# Altium footprint library LABLIB.PcbLib: 240 footprints (part 1 of 17)
Each footprint in its own frame and in the unit in brackets; x right, y up, seen from the top. Pads: shape width x height; smd on the part's side, far side on the other; paste and mask are expansions set on the pad; w line width, h text height; cw(c..) or ccw(c..) is an arc to the next point about the centre after c.
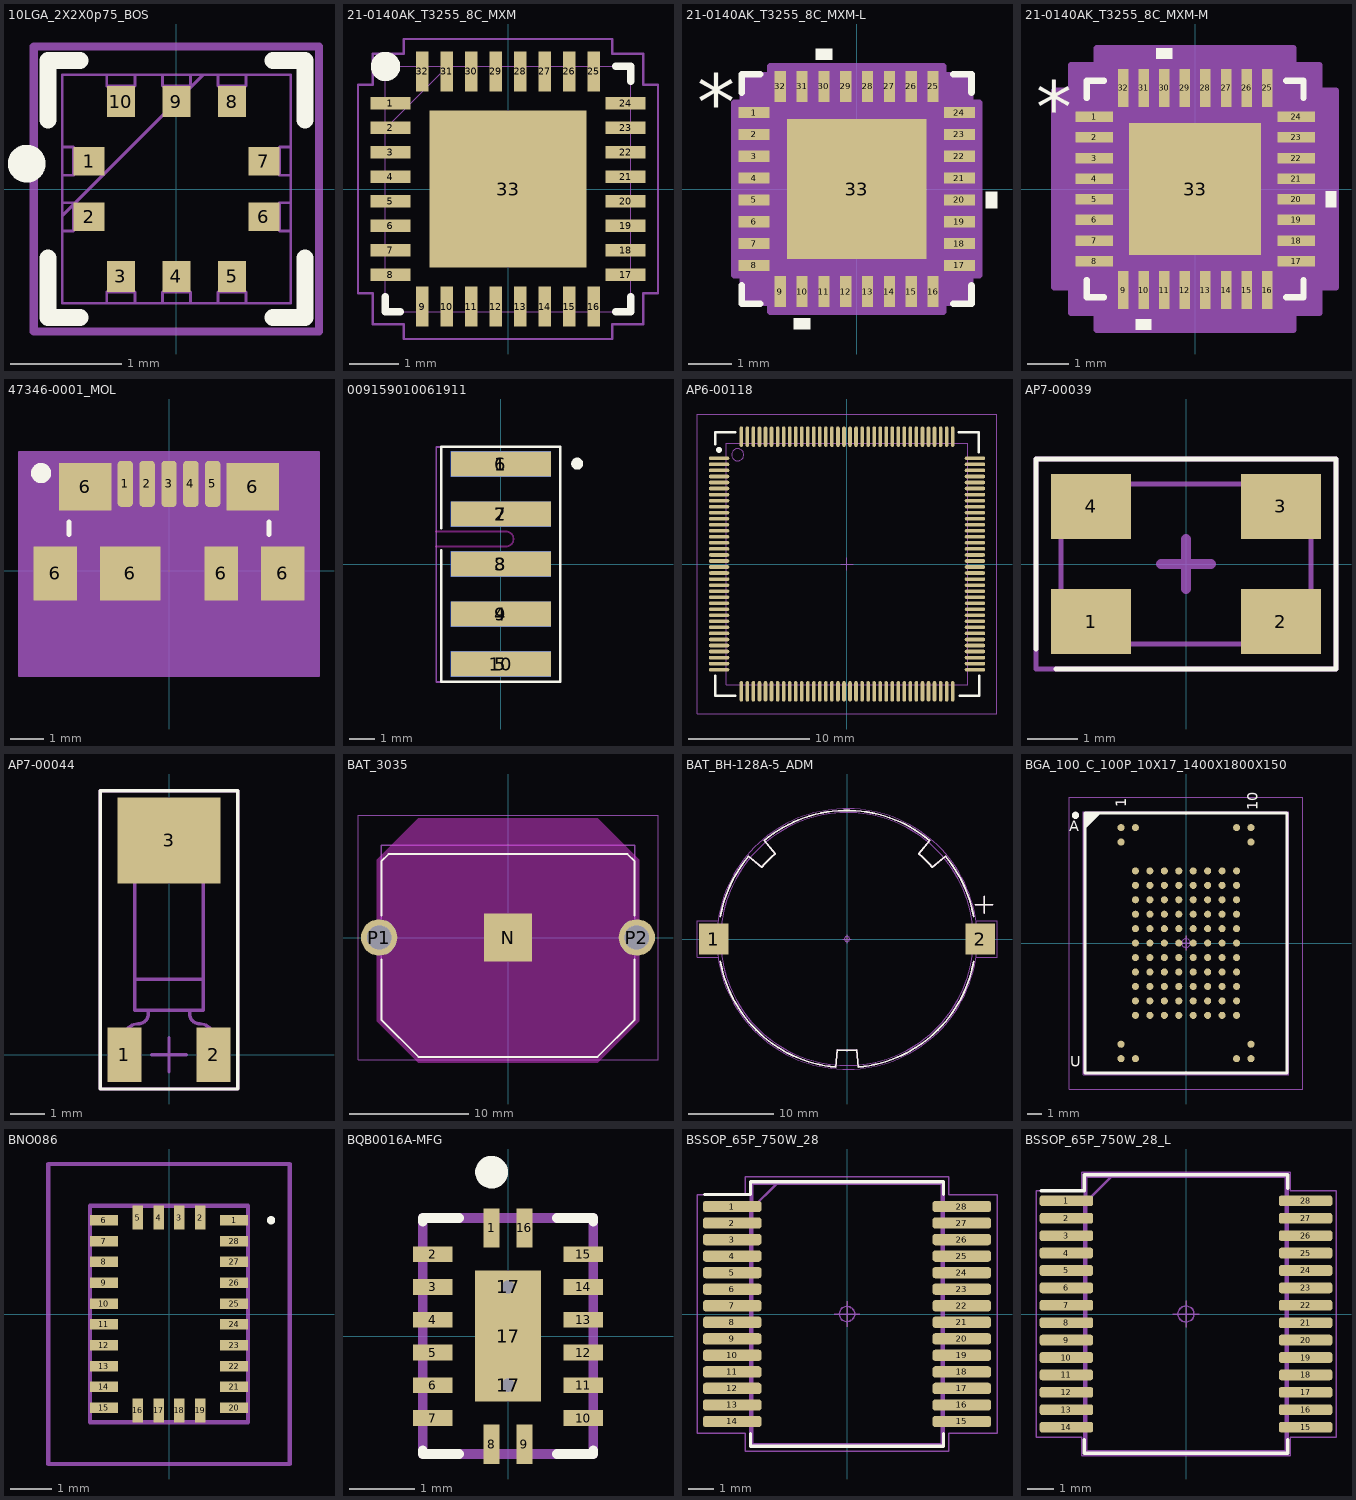
[diagram p0: the footprints below, top view; thin cyan lines are the x and y axes]

## 10LGA_2X2X0p75_BOS [mil]
pads (10):
  rect 11x10 smd paste+0 mask+0: 1(-31,9.84) 2(-31,-9.84) 6(31,-9.84) 7(31,9.84)
  rect 10x11 smd paste+0 mask+0: 3(-19.68,-31) 4(0,-31) 5(19.68,-31) 8(19.68,31) 9(0,31) 10(-19.68,31)
Top Overlay:
  circle w7.87: c-53.05,8.98 r2.76
  lines w6: -45.5,-24.36 -45.5,-45.5 -34.2,-45.5 ; -45.5,24.36 -45.5,45.5 -34.2,45.5 ; 34.2,-45.5 45.5,-45.5 45.5,-24.36 ; 34.2,45.5 45.5,45.5 45.5,24.36
Mechanical 13:
  lines w1: -40.5,-9.5 9.5,40.5 ; -40.5,-40.5 -40.5,40.5 40.5,40.5 40.5,-40.5 -40.5,-40.5 ; -40.5,-14.84 -36.5,-14.84 -36.5,-4.84 -40.5,-4.84 -40.5,-14.84 ; -40.5,4.84 -36.5,4.84 -36.5,14.84 -40.5,14.84 -40.5,4.84 ; -24.68,-40.5 -24.68,-36.5 -14.69,-36.5 -14.69,-40.5 -24.68,-40.5 ; -24.68,36.5 -24.68,40.5 -14.69,40.5 -14.69,36.5 -24.68,36.5 ; -5,-40.5 -5,-36.5 5,-36.5 5,-40.5 -5,-40.5 ; -5,36.5 -5,40.5 5,40.5 5,36.5 -5,36.5 ; 14.69,-40.5 14.69,-36.5 24.68,-36.5 24.68,-40.5 14.69,-40.5 ; 14.69,36.5 14.69,40.5 24.68,40.5 24.68,36.5 14.69,36.5 ; 36.5,-14.84 36.5,-4.84 40.5,-4.84 40.5,-14.84 36.5,-14.84 ; 36.5,4.84 36.5,14.84 40.5,14.84 40.5,4.84 36.5,4.84
Mechanical 15:
  lines w3: -50.5,-50.5 -34.69,-50.5 34.69,-50.5 50.5,-50.5 50.5,-24.84 50.5,24.84 50.5,50.5 34.69,50.5 -34.69,50.5 -50.5,50.5 -50.5,24.84 -50.5,-24.84 -50.5,-50.5
3D body "10LGA_2X2X0p75_BOS.step": height 32.09, standoff 0, extent -40.51,-40.51 40.51,40.51

## 21-0140AK_T3255_8C_MXM [mil]
pads (33):
  rect 32x10 smd paste+0 mask+0: 1(-94.5,68.9) 2(-94.5,49.21) 3(-94.5,29.53) 4(-94.5,9.84) 5(-94.5,-9.84) 6(-94.5,-29.53) 7(-94.5,-49.21) 8(-94.5,-68.9) 17(94.5,-68.9) 18(94.5,-49.21) 19(94.5,-29.53) 20(94.5,-9.84) 21(94.5,9.84) 22(94.5,29.53) 23(94.5,49.21) 24(94.5,68.9)
  rect 10x32 smd paste+0 mask+0: 9(-68.9,-94.5) 10(-49.21,-94.5) 11(-29.53,-94.5) 12(-9.84,-94.5) 13(9.84,-94.5) 14(29.53,-94.5) 15(49.21,-94.5) 16(68.9,-94.5) 25(68.9,94.5) 26(49.21,94.5) 27(29.53,94.5) 28(9.84,94.5) 29(-9.84,94.5) 30(-29.53,94.5) 31(-49.21,94.5) 32(-68.9,94.5)
  rect 126x126 smd paste-5.91 mask+0: 33(0,0)
Top Overlay:
  circle w11.81: c-98.43,98.43 r5.91
  lines w6: -98.5,-86.61 -98.5,-98.5 -86.61,-98.5 ; 86.61,-98.5 98.5,-98.5 98.5,-86.61 ; 86.61,98.5 98.5,98.5 98.5,86.61
Top Paste:
  region: 59.06,-3.94 3.94,-3.94 3.94,-59.06 59.06,-59.06
  region: 59.06,59.06 3.94,59.06 3.94,3.94 59.06,3.94
  region: -3.94,-3.94 -59.06,-3.94 -59.06,-59.06 -3.94,-59.06
  region: -3.94,59.06 -59.06,59.06 -59.06,3.94 -3.94,3.94
Top Assembly:
  lines w1: -98.5,48.5 -48.5,98.5 ; -98.5,-98.5 98.5,-98.5 98.5,98.5 -98.5,98.5 -98.5,-98.5 ; -98.5,-74.9 -98.5,-62.9 -98.5,-74.9 ; -98.5,-55.21 -98.5,-43.21 -98.5,-55.21 ; -98.5,-35.53 -98.5,-23.53 -98.5,-35.53 ; -98.5,-15.84 -98.5,-3.84 -98.5,-15.84 ; -98.5,3.84 -98.5,15.84 -98.5,3.84 ; -98.5,23.53 -98.5,35.53 -98.5,23.53 ; -98.5,43.21 -98.5,55.21 -98.5,43.21 ; -98.5,62.9 -98.5,74.9 -98.5,62.9 ; -74.9,-98.5 -62.9,-98.5 -74.9,-98.5 ; -74.9,98.5 -62.9,98.5 -74.9,98.5 ; -55.21,-98.5 -43.21,-98.5 -55.21,-98.5 ; -55.21,98.5 -43.21,98.5 -55.21,98.5 ; -35.53,-98.5 -23.53,-98.5 -35.53,-98.5 ; -35.53,98.5 -23.53,98.5 -35.53,98.5 ; -15.84,-98.5 -3.84,-98.5 -15.84,-98.5 ; -15.84,98.5 -3.84,98.5 -15.84,98.5 ; 3.84,-98.5 15.84,-98.5 3.84,-98.5 ; 3.84,98.5 15.84,98.5 3.84,98.5 ; 23.53,-98.5 35.53,-98.5 23.53,-98.5 ; 23.53,98.5 35.53,98.5 23.53,98.5 ; 43.21,-98.5 55.21,-98.5 43.21,-98.5 ; 43.21,98.5 55.21,98.5 43.21,98.5 ; 62.9,-98.5 74.9,-98.5 62.9,-98.5 ; 62.9,98.5 74.9,98.5 62.9,98.5 ; 98.5,-74.9 98.5,-62.9 98.5,-74.9 ; 98.5,-55.21 98.5,-43.21 98.5,-55.21 ; 98.5,-35.53 98.5,-23.53 98.5,-35.53 ; 98.5,-15.84 98.5,-3.84 98.5,-15.84 ; 98.5,3.84 98.5,15.84 98.5,3.84 ; 98.5,23.53 98.5,35.53 98.5,23.53 ; 98.5,43.21 98.5,55.21 98.5,43.21 ; 98.5,62.9 98.5,74.9 98.5,62.9
  text "*" at -91,53.74 h50
Top Courtyard:
  lines w1.97: -120.5,-83.9 -120.5,83.9 -108.5,83.9 -108.5,108.5 -83.9,108.5 -83.9,120.5 83.9,120.5 83.9,108.5 108.5,108.5 108.5,83.9 120.5,83.9 120.5,-83.9 108.5,-83.9 108.5,-108.5 83.9,-108.5 83.9,-120.5 -83.9,-120.5 -83.9,-108.5 -108.5,-108.5 -108.5,-83.9 -120.5,-83.9
3D body "21-0140AK_T3255_8C_MXM.step": height 32.09, standoff 0, extent -98.5,-98.5 98.5,98.5

## 21-0140AK_T3255_8C_MXM-L [mil]
pads (33):
  rect 28x10 smd paste+0 mask+0: 1(-92.5,68.9) 2(-92.5,49.21) 3(-92.5,29.53) 4(-92.5,9.84) 5(-92.5,-9.84) 6(-92.5,-29.53) 7(-92.5,-49.21) 8(-92.5,-68.9) 17(92.5,-68.9) 18(92.5,-49.21) 19(92.5,-29.53) 20(92.5,-9.84) 21(92.5,9.84) 22(92.5,29.53) 23(92.5,49.21) 24(92.5,68.9)
  rect 10x28 smd paste+0 mask+0: 9(-68.9,-92.5) 10(-49.21,-92.5) 11(-29.53,-92.5) 12(-9.84,-92.5) 13(9.84,-92.5) 14(29.53,-92.5) 15(49.21,-92.5) 16(68.9,-92.5) 25(68.9,92.5) 26(49.21,92.5) 27(29.53,92.5) 28(9.84,92.5) 29(-9.84,92.5) 30(-29.53,92.5) 31(-49.21,92.5) 32(-68.9,92.5)
  rect 126x126 smd paste-63 mask+0: 33(0,0)
Top Overlay:
  region: -41.71,-116.5 -56.71,-116.5 -56.71,-126.5 -41.71,-126.5
  region: 116.5,-2.34 126.5,-2.34 126.5,-17.34 116.5,-17.34
  region: -22.03,116.5 -37.03,116.5 -37.03,126.5 -22.03,126.5
  lines w6: -103.5,-87 -103.5,-103.5 -87,-103.5 ; -103.5,87 -103.5,103.5 -87,103.5 ; 87,-103.5 103.5,-103.5 103.5,-87 ; 87,103.5 103.5,103.5 103.5,87
  text "*" at -144,53.74 h50
  text ".Designator" at -137.5,-25 h50
Top Paste:
  region: -3.94,59.06 -59.06,59.06 -59.06,3.94 -3.94,3.94
  region: -3.94,-3.94 -59.06,-3.94 -59.06,-59.06 -3.94,-59.06
  region: 59.06,59.06 3.94,59.06 3.94,3.94 59.06,3.94
  region: 59.06,-3.94 3.94,-3.94 3.94,-59.06 59.06,-59.06
Mechanical 13:
  lines w1: -98.5,48.5 -48.5,98.5 ; -98.5,-98.5 98.5,-98.5 98.5,98.5 -98.5,98.5 -98.5,-98.5 ; -98.5,-74.9 -98.5,-62.9 -98.5,-74.9 ; -98.5,-55.21 -98.5,-43.21 -98.5,-55.21 ; -98.5,-35.53 -98.5,-23.53 -98.5,-35.53 ; -98.5,-15.84 -98.5,-3.84 -98.5,-15.84 ; -98.5,3.84 -98.5,15.84 -98.5,3.84 ; -98.5,23.53 -98.5,35.53 -98.5,23.53 ; -98.5,43.21 -98.5,55.21 -98.5,43.21 ; -98.5,62.9 -98.5,74.9 -98.5,62.9 ; -74.9,-98.5 -62.9,-98.5 -74.9,-98.5 ; -74.9,98.5 -62.9,98.5 -74.9,98.5 ; -55.21,-98.5 -43.21,-98.5 -55.21,-98.5 ; -55.21,98.5 -43.21,98.5 -55.21,98.5 ; -35.53,-98.5 -23.53,-98.5 -35.53,-98.5 ; -35.53,98.5 -23.53,98.5 -35.53,98.5 ; -15.84,-98.5 -3.84,-98.5 -15.84,-98.5 ; -15.84,98.5 -3.84,98.5 -15.84,98.5 ; 3.84,-98.5 15.84,-98.5 3.84,-98.5 ; 3.84,98.5 15.84,98.5 3.84,98.5 ; 23.53,-98.5 35.53,-98.5 23.53,-98.5 ; 23.53,98.5 35.53,98.5 23.53,98.5 ; 43.21,-98.5 55.21,-98.5 43.21,-98.5 ; 43.21,98.5 55.21,98.5 43.21,98.5 ; 62.9,-98.5 74.9,-98.5 62.9,-98.5 ; 62.9,98.5 74.9,98.5 62.9,98.5 ; 98.5,-74.9 98.5,-62.9 98.5,-74.9 ; 98.5,-55.21 98.5,-43.21 98.5,-55.21 ; 98.5,-35.53 98.5,-23.53 98.5,-35.53 ; 98.5,-15.84 98.5,-3.84 98.5,-15.84 ; 98.5,3.84 98.5,15.84 98.5,3.84 ; 98.5,23.53 98.5,35.53 98.5,23.53 ; 98.5,43.21 98.5,55.21 98.5,43.21 ; 98.5,62.9 98.5,74.9 98.5,62.9
  text ".Designator" at -137.5,-25 h50
  text "*" at -91,53.74 h50
Mechanical 15:
  region: -77.9,-102.5 -102.5,-102.5 -102.5,-77.9 -110.5,-77.9 -110.5,77.9 -102.5,77.9 -102.5,102.5 -77.9,102.5 -77.9,110.5 77.9,110.5 77.9,102.5 102.5,102.5 102.5,77.9 110.5,77.9 110.5,-77.9 102.5,-77.9 102.5,-102.5 77.9,-102.5 77.9,-110.5 -77.9,-110.5
  lines w6: -110.5,-77.9 -102.5,-77.9 -102.5,-102.5 -77.9,-102.5 -77.9,-110.5 77.9,-110.5 77.9,-102.5 102.5,-102.5 102.5,-77.9 110.5,-77.9 110.5,77.9 102.5,77.9 102.5,102.5 77.9,102.5 77.9,110.5 -77.9,110.5 -77.9,102.5 -102.5,102.5 -102.5,77.9 -110.5,77.9 -110.5,-77.9
3D body "21-0140AK_T3255_8C_MXM.step": height 32.09, standoff 0, extent -98.5,-98.5 98.5,98.5

## 21-0140AK_T3255_8C_MXM-M [mil]
pads (33):
  rect 36x10 smd paste+0 mask+0: 1(-96.5,68.9) 2(-96.5,49.21) 3(-96.5,29.53) 4(-96.5,9.84) 5(-96.5,-9.84) 6(-96.5,-29.53) 7(-96.5,-49.21) 8(-96.5,-68.9) 17(96.5,-68.9) 18(96.5,-49.21) 19(96.5,-29.53) 20(96.5,-9.84) 21(96.5,9.84) 22(96.5,29.53) 23(96.5,49.21) 24(96.5,68.9)
  rect 10x36 smd paste+0 mask+0: 9(-68.9,-96.5) 10(-49.21,-96.5) 11(-29.53,-96.5) 12(-9.84,-96.5) 13(9.84,-96.5) 14(29.53,-96.5) 15(49.21,-96.5) 16(68.9,-96.5) 25(68.9,96.5) 26(49.21,96.5) 27(29.53,96.5) 28(9.84,96.5) 29(-9.84,96.5) 30(-29.53,96.5) 31(-49.21,96.5) 32(-68.9,96.5)
  rect 126x126 smd paste-63 mask+0: 33(0,0)
Top Overlay:
  region: -41.71,-124.5 -56.71,-124.5 -56.71,-134.5 -41.71,-134.5
  region: 124.5,-2.34 134.5,-2.34 134.5,-17.34 124.5,-17.34
  region: -22.03,124.5 -37.03,124.5 -37.03,134.5 -22.03,134.5
  lines w6: -103.5,-87 -103.5,-103.5 -87,-103.5 ; -103.5,87 -103.5,103.5 -87,103.5 ; 87,-103.5 103.5,-103.5 103.5,-87 ; 87,103.5 103.5,103.5 103.5,87
  text "*" at -152,53.74 h50
  text ".Designator" at -137.5,-25 h50
Top Paste:
  region: -3.94,59.06 -59.06,59.06 -59.06,3.94 -3.94,3.94
  region: -3.94,-3.94 -59.06,-3.94 -59.06,-59.06 -3.94,-59.06
  region: 59.06,59.06 3.94,59.06 3.94,3.94 59.06,3.94
  region: 59.06,-3.94 3.94,-3.94 3.94,-59.06 59.06,-59.06
Mechanical 13:
  lines w1: -98.5,48.5 -48.5,98.5 ; -98.5,-98.5 98.5,-98.5 98.5,98.5 -98.5,98.5 -98.5,-98.5 ; -98.5,-74.9 -98.5,-62.9 -98.5,-74.9 ; -98.5,-55.21 -98.5,-43.21 -98.5,-55.21 ; -98.5,-35.53 -98.5,-23.53 -98.5,-35.53 ; -98.5,-15.84 -98.5,-3.84 -98.5,-15.84 ; -98.5,3.84 -98.5,15.84 -98.5,3.84 ; -98.5,23.53 -98.5,35.53 -98.5,23.53 ; -98.5,43.21 -98.5,55.21 -98.5,43.21 ; -98.5,62.9 -98.5,74.9 -98.5,62.9 ; -74.9,-98.5 -62.9,-98.5 -74.9,-98.5 ; -74.9,98.5 -62.9,98.5 -74.9,98.5 ; -55.21,-98.5 -43.21,-98.5 -55.21,-98.5 ; -55.21,98.5 -43.21,98.5 -55.21,98.5 ; -35.53,-98.5 -23.53,-98.5 -35.53,-98.5 ; -35.53,98.5 -23.53,98.5 -35.53,98.5 ; -15.84,-98.5 -3.84,-98.5 -15.84,-98.5 ; -15.84,98.5 -3.84,98.5 -15.84,98.5 ; 3.84,-98.5 15.84,-98.5 3.84,-98.5 ; 3.84,98.5 15.84,98.5 3.84,98.5 ; 23.53,-98.5 35.53,-98.5 23.53,-98.5 ; 23.53,98.5 35.53,98.5 23.53,98.5 ; 43.21,-98.5 55.21,-98.5 43.21,-98.5 ; 43.21,98.5 55.21,98.5 43.21,98.5 ; 62.9,-98.5 74.9,-98.5 62.9,-98.5 ; 62.9,98.5 74.9,98.5 62.9,98.5 ; 98.5,-74.9 98.5,-62.9 98.5,-74.9 ; 98.5,-55.21 98.5,-43.21 98.5,-55.21 ; 98.5,-35.53 98.5,-23.53 98.5,-35.53 ; 98.5,-15.84 98.5,-3.84 98.5,-15.84 ; 98.5,3.84 98.5,15.84 98.5,3.84 ; 98.5,23.53 98.5,35.53 98.5,23.53 ; 98.5,43.21 98.5,55.21 98.5,43.21 ; 98.5,62.9 98.5,74.9 98.5,62.9
  text ".Designator" at -137.5,-25 h50
  text "*" at -91,53.74 h50
Mechanical 15:
  region: -93.9,-118.5 -118.5,-118.5 -118.5,-93.9 -134.5,-93.9 -134.5,93.9 -118.5,93.9 -118.5,118.5 -93.9,118.5 -93.9,134.5 93.9,134.5 93.9,118.5 118.5,118.5 118.5,93.9 134.5,93.9 134.5,-93.9 118.5,-93.9 118.5,-118.5 93.9,-118.5 93.9,-134.5 -93.9,-134.5
  lines w6: -134.5,-93.9 -118.5,-93.9 -118.5,-118.5 -93.9,-118.5 -93.9,-134.5 93.9,-134.5 93.9,-118.5 118.5,-118.5 118.5,-93.9 134.5,-93.9 134.5,93.9 118.5,93.9 118.5,118.5 93.9,118.5 93.9,134.5 -93.9,134.5 -93.9,118.5 -118.5,118.5 -118.5,93.9 -134.5,93.9 -134.5,-93.9
3D body "21-0140AK_T3255_8C_MXM.step": height 32.09, standoff 0, extent -98.5,-98.5 98.5,98.5

## 47346-0001_MOL [mm]
pads (11):
  rrect50% 0.457x1.372 smd: 1(-1.3,2.58) 2(-0.65,2.58) 3(0,2.58) 4(0.65,2.58) 5(1.3,2.58)
  rect 1.3x1.6 smd paste-0.1: 6(-3.375,-0.08) 6(3.375,-0.08)
  rect 1.549x1.422 smd paste-0.1: 6(-2.488,2.495) 6(2.488,2.495)
  rect 1.8x1.6 smd paste-0.1: 6(-1.15,-0.08)
  rect 1x1.6 smd paste-0.1: 6(1.549,-0.08)
Top Overlay:
  circle w0.3: c-3.8,2.9 r0.15
  lines w0.152: -2.972,1.078 -2.972,1.451 ; 2.972,1.078 2.972,1.451
Mechanical 1:
  cavity: 4.454,3.524 -4.454,3.524 -4.454,-3.124 4.454,-3.124
Top Assembly:
  circle w0.2: c-1.3,1.6 r0.1
  lines w0.025: -2.845,-2.87 -2.845,2.87 2.845,2.87 2.845,-2.87 -2.845,-2.87
  text "'.Designator'" at -3.952,-0.622 h1.5
Top Courtyard:
  lines w0.05: -4.454,-3.124 -4.454,3.524 4.454,3.524 4.454,-3.124 -4.454,-3.124
Top Component Center:
  circle w0.05: c0,0 r0.3
  lines w0.05: -0.5,0 0.5,0 ; 0,-0.5 0,0.5
3D body "473460001.stp": height 2.69, standoff -0.25, extent -3.99,-2.78 3.99,2.65

## 009159010061911 [mm]
pads (10):
  rect 4x1 smd paste-2539.97: 1(0,4) 2(0,2) 3(0,0) 4(0,-2) 5(0,-4)
  rect 4x1 smd far side paste-2539.97: 6(0,4) 7(0,2) 8(0,0) 9(0,-2) 10(0,-4)
Top Overlay:
  circle w0.254: c3.048,4.013 r0.114
  lines w0.1: -2.388,0.546 -2.388,-4.7 2.362,-4.7 2.362,4.698 -2.388,4.698 -2.388,1.435
Bottom Overlay:
  lines w0.1: -2.388,0.546 -2.388,-4.7 2.362,-4.7 2.362,4.698 -2.388,4.698 -2.388,1.435
Keep-Out Layer:
  lines w0.076: -2.6,0.7 0.2,0.7 ccw(c0.2,1) 0.2,1.3 -2.6,1.3
Top Component Outline:
  lines w0.076: -2.591,-4.712 -2.591,4.686 2.362,4.686 2.362,-4.712 -2.591,-4.712
Bottom Component Outline:
  lines w0.076: -2.591,-4.712 -2.591,4.686 2.362,4.686 2.362,-4.712 -2.591,-4.712

## AP6-00118 [mm]
height 1.6
pads (144):
  oval 1.7x0.3 smd: 1(-10.6,8.75) 2(-10.6,8.25) 3(-10.6,7.75) 4(-10.6,7.25) 5(-10.6,6.75) 6(-10.6,6.25) 7(-10.6,5.75) 8(-10.6,5.25) 9(-10.6,4.75) 10(-10.6,4.25) 11(-10.6,3.75) 12(-10.6,3.25) 13(-10.6,2.75) 14(-10.6,2.25) 15(-10.6,1.75) 16(-10.6,1.25) 17(-10.6,0.75) 18(-10.6,0.25) 19(-10.6,-0.25) 20(-10.6,-0.75) 21(-10.6,-1.25) 22(-10.6,-1.75) 23(-10.6,-2.25) 24(-10.6,-2.75) 25(-10.6,-3.25) 26(-10.6,-3.75) 27(-10.6,-4.25) 28(-10.6,-4.75) 29(-10.6,-5.25) 30(-10.6,-5.75) 31(-10.6,-6.25) 32(-10.6,-6.75) 33(-10.6,-7.25) 34(-10.6,-7.75) 35(-10.6,-8.25) 36(-10.6,-8.75) 73(10.6,-8.75) 74(10.6,-8.25) 75(10.6,-7.75) 76(10.6,-7.25) 77(10.6,-6.75) 78(10.6,-6.25) 79(10.6,-5.75) 80(10.6,-5.25) 81(10.6,-4.75) 82(10.6,-4.25) 83(10.6,-3.75) 84(10.6,-3.25) 85(10.6,-2.75) 86(10.6,-2.25) 87(10.6,-1.75) 88(10.6,-1.25) 89(10.6,-0.75) 90(10.6,-0.25) 91(10.6,0.25) 92(10.6,0.75) 93(10.6,1.25) 94(10.6,1.75) 95(10.6,2.25) 96(10.6,2.75) 97(10.6,3.25) 98(10.6,3.75) 99(10.6,4.25) 100(10.6,4.75) 101(10.6,5.25) 102(10.6,5.75) 103(10.6,6.25) 104(10.6,6.75) 105(10.6,7.25) 106(10.6,7.75) 107(10.6,8.25) 108(10.6,8.75)
  oval 0.3x1.7 smd: 37(-8.75,-10.55) 38(-8.25,-10.55) 39(-7.75,-10.55) 40(-7.25,-10.55) 41(-6.75,-10.55) 42(-6.25,-10.55) 43(-5.75,-10.55) 44(-5.25,-10.55) 45(-4.75,-10.55) 46(-4.25,-10.55) 47(-3.75,-10.55) 48(-3.25,-10.55) 49(-2.75,-10.55) 50(-2.25,-10.55) 51(-1.75,-10.55) 52(-1.25,-10.55) 53(-0.75,-10.55) 54(-0.25,-10.55) 55(0.25,-10.55) 56(0.75,-10.55) 57(1.25,-10.55) 58(1.75,-10.55) 59(2.25,-10.55) 60(2.75,-10.55) 61(3.25,-10.55) 62(3.75,-10.55) 63(4.25,-10.55) 64(4.75,-10.55) 65(5.25,-10.55) 66(5.75,-10.55) 67(6.25,-10.55) 68(6.75,-10.55) 69(7.25,-10.55) 70(7.75,-10.55) 71(8.25,-10.55) 72(8.75,-10.55) 109(8.75,10.55) 110(8.25,10.55) 111(7.75,10.55) 112(7.25,10.55) 113(6.75,10.55) 114(6.25,10.55) 115(5.75,10.55) 116(5.25,10.55) 117(4.75,10.55) 118(4.25,10.55) 119(3.75,10.55) 120(3.25,10.55) 121(2.75,10.55) 122(2.25,10.55) 123(1.75,10.55) 124(1.25,10.55) 125(0.75,10.55) 126(0.25,10.55) 127(-0.25,10.55) 128(-0.75,10.55) 129(-1.25,10.55) 130(-1.75,10.55) 131(-2.25,10.55) 132(-2.75,10.55) 133(-3.25,10.55) 134(-3.75,10.55) 135(-4.25,10.55) 136(-4.75,10.55) 137(-5.25,10.55) 138(-5.75,10.55) 139(-6.25,10.55) 140(-6.75,10.55) 141(-7.25,10.55) 142(-7.75,10.55) 143(-8.25,10.55) 144(-8.75,10.55)
Top Overlay:
  circle w0.25: c-10.6,9.45 r0.125
  lines w0.2: -10.897,-9.271 -10.897,-10.897 -9.271,-10.897 ; -10.897,9.931 -10.897,10.897 -9.271,10.897 ; 9.271,10.897 10.897,10.897 10.897,9.271 ; 9.321,-10.897 10.947,-10.897 10.947,-9.271
Mechanical 13:
  circle w0.1: c-9.05,9.05 r0.5
  lines w0.1: -10,-10 10,-10 10,10 -10,10 -10,-10
Mechanical 15:
  lines w0.1: -0.5,0 0.5,0 ; 0,-0.5 0,0.5 ; -12.425,-12.425 12.425,-12.425 12.425,12.425 -12.425,12.425 -12.425,-12.425
3D body: height 1.71, standoff 1.5, extent -1.5,5 1.5,7
3D body "qfp144.STEP": height 1.64, standoff -0.01, extent -11,-11 11,11

## AP7-00039 [mm] "FOX FQ5032B"
height 1.2
pads (4):
  rect 1.6x1.3 smd: 1(-1.9,-1.15) 2(1.9,-1.15) 3(1.9,1.15) 4(-1.9,1.15)
Top Overlay:
  lines w0.1: -3,-1.7 -3,2.1 3,2.1 3,-2.1 -2.6,-2.1
Mechanical 13:
  lines w0.1: -2.5,-1.6 -2.5,1.6 2.5,1.6 2.5,-1.6 -2.5,-1.6
Mechanical 15:
  lines w0.1: -3,-2.1 3,-2.1 3,2.1 -3,2.1 -3,-2.1
  lines w0.2: -0.5,0 0.5,0 ; 0,-0.5 0,0.5
3D body "User Library-CRYSTALSMD5X32.step": height 1, standoff 0, extent -2.5,-1.6 2.5,1.6

## AP7-00044 [mm]
height 0.9
pads (3):
  rect 1x1.6 smd: 1(-1.3,0) 2(1.3,0)
  rect 3x2.5 smd: 3(0,6.25)
Top Overlay:
  lines w0.1: -2,-1 -2,7.7 2,7.7 2,-1 -2,-1
Mechanical 13:
  lines w0.1: -1.3,-0.7 -1.3,0.5 cw(c-0.9,0.5) -0.9,0.9 ccw(c-0.9,1.2) -0.6,1.2 -0.6,1.3 ; -1,2.2 1,2.2 ; 0.6,1.3 0.6,1.2 ccw(c0.9,1.2) 0.9,0.9 cw(c0.9,0.5) 1.3,0.5 1.3,-0.7 ; -1,1.3 1,1.3 1,7.4 -1,7.4 -1,1.3
Mechanical 15:
  lines w0.1: -0.5,0 0.5,0 ; 0,-0.5 0,0.5 ; -2,-1 2,-1 2,7.7 -2,7.7 -2,-1
3D body: height 0.5, standoff 0, extent 1.1,-0.7 1.5,0.3
3D body: height 0.5, standoff 0, extent 0.51,0.017 1.5,1.007
3D body: height 0.5, standoff 0, extent 0.51,0.724 0.91,1.3
3D body: height 0.5, standoff 0, extent -0.91,0.724 -0.51,1.3
3D body: height 0.5, standoff 0, extent -1.5,0.017 -0.51,1.007
3D body: height 0.5, standoff 0, extent -1.5,-0.7 -1.1,0.3
3D body: height 2.08, standoff 0, extent -1,1.3 1,7.4

## BAT_3035 [mm]
height 4.57
pads (3):
  rect 4x4 smd paste-2539.97: N(0,0)
  round 3.045 hole 2.03: P1(-10.795,0) P2(10.795,0)
Top Layer keep-out:
  region: -11,-7 -7.5,-10.5 7.5,-10.5 11,-7 11,6.5 7.5,10 -7.5,10 -11,6.5
Top Overlay:
  lines w0.15: -10.605,-1.843 -10.605,-6.895 -7.5,-10 7.5,-10 10.605,-6.895 10.605,-1.843 ; -10.605,1.843 -10.605,6.395 -10,7 10,7 10.605,6.395 10.605,1.843
Mechanical 13:
  lines w0.127: -10.605,-6.895 -10.605,7.74 10.605,7.74 10.605,-6.895 7.5,-10 -7.5,-10 -10.605,-6.895
Mechanical 15:
  lines w0.05: -12.568,-10.25 -12.568,10.25 12.568,10.25 12.568,-10.25 -12.568,-10.25
3D body "step_temp.STEP": height 4.25, standoff -2.79, extent -11.124,-7.85 11.124,7.74

## BAT_BH-128A-5_ADM [mil]
pads (2):
  rect 134x142 smd paste+0 mask+0: 1(-612.2,0) 2(612.2,0)
Top Overlay:
  lines w7.87: -581.58,-102.55 ccw(c0,0) -51.47,-588.3 -44.61,-509.86 ; -581.58,102.55 cw(c0,0) -452.39,379.6 -392.07,328.99 cw(c0,0) -328.99,392.07 -379.6,452.39 cw(c0,0) 378.06,453.67 ; -44.6,-509.76 ccw(c0.58,0.05) 44.61,-509.86 51.47,-588.3 ccw(c0,0) 581.58,-102.55 ; 379.6,452.39 328.99,392.07 cw(c0,0) 392.07,328.99 452.39,379.6 cw(c0,0) 581.58,102.55 ; 590.55,157.48 669.29,157.48 ; 629.92,118.11 629.92,196.85
Top Assembly:
  lines w0: -580.5,0 ccw(c0,0) 0,-580.5
  lines w7.87: -581.58,-102.55 ccw(c0,0) -51.47,-588.3 -44.61,-509.86 ; -581.58,102.55 cw(c0,0) -452.39,379.6 -392.07,328.99 cw(c0,0) -328.99,392.07 -379.6,452.39 cw(c0,0) 378.06,453.67 ; -44.6,-509.76 ccw(c0.58,0.05) 44.61,-509.86 51.47,-588.3 ccw(c0,0) 581.58,-102.55 ; 379.6,452.39 328.99,392.07 cw(c0,0) 392.07,328.99 452.39,379.6 cw(c0,0) 581.58,102.55 ; 590.55,157.48 669.29,157.48 ; 629.92,118.11 629.92,196.85
  text "'.Designator'" at -155.57,-24.48 h59.06
Top Courtyard:
  circle w3.94: c0,0 r598.42
  lines w1.97: -594.49,-82.68 -688.98,-82.68 -688.98,70.87 -688.98,78.74 -688.98,82.68 -594.49,82.68 ; 594.49,-82.68 688.98,-82.68 688.98,82.68 594.49,82.68
Top Component Outline:
  circle w3.94: c0,0 r580.71
Top Component Center:
  circle w1.97: c0,0 r11.81
  lines w1.97: -19.68,0 19.68,0 ; 0,-19.68 0,19.68
Mechanical 13:
  lines w0: -580.5,0 cw(c0,0) 0,580.5 cw(c0,0) 580.5,0 cw(c0,0) 0,-580.5
3D body: height 338.58, standoff 0, extent -598.42,-598.42 598.42,598.42

## BGA_100_C_100P_10X17_1400X1800X150 [mm] "BGA, 100-Leads, Body 14.00x18.00mmx1.50mm, Pitch 1.00mm"
height 1.5
pads (200):
  round 0.49 smd: A1(-4.5,8) A2(-3.5,8) A9(3.5,8) A10(4.5,8) B1(-4.5,7) B10(4.5,7) D2(-3.5,5) D3(-2.5,5) D4(-1.5,5) D5(-0.5,5) D6(0.5,5) D7(1.5,5) D8(2.5,5) D9(3.5,5) E2(-3.5,4) E3(-2.5,4) E4(-1.5,4) E5(-0.5,4) E6(0.5,4) E7(1.5,4) E8(2.5,4) E9(3.5,4) F2(-3.5,3) F3(-2.5,3) F4(-1.5,3) F5(-0.5,3) F6(0.5,3) F7(1.5,3) F8(2.5,3) F9(3.5,3) G2(-3.5,2) G3(-2.5,2) G4(-1.5,2) G5(-0.5,2) G6(0.5,2) G7(1.5,2) G8(2.5,2) G9(3.5,2) H2(-3.5,1) H3(-2.5,1) H4(-1.5,1) H5(-0.5,1) H6(0.5,1) H7(1.5,1) H8(2.5,1) H9(3.5,1) J2(-3.5,0) J3(-2.5,0) J4(-1.5,0) J5(-0.5,0) J6(0.5,0) J7(1.5,0) J8(2.5,0) J9(3.5,0) K2(-3.5,-1) K3(-2.5,-1) K4(-1.5,-1) K5(-0.5,-1) K6(0.5,-1) K7(1.5,-1) K8(2.5,-1) K9(3.5,-1) L2(-3.5,-2) L3(-2.5,-2) L4(-1.5,-2) L5(-0.5,-2) L6(0.5,-2) L7(1.5,-2) L8(2.5,-2) L9(3.5,-2) M2(-3.5,-3) M3(-2.5,-3) M4(-1.5,-3) M5(-0.5,-3) M6(0.5,-3) M7(1.5,-3) M8(2.5,-3) M9(3.5,-3) N2(-3.5,-4) N3(-2.5,-4) N4(-1.5,-4) N5(-0.5,-4) N6(0.5,-4) N7(1.5,-4) N8(2.5,-4) N9(3.5,-4) P2(-3.5,-5) P3(-2.5,-5) P4(-1.5,-5) P5(-0.5,-5) P6(0.5,-5) P7(1.5,-5) P8(2.5,-5) P9(3.5,-5) T1(-4.5,-7) T10(4.5,-7) U1(-4.5,-8) U2(-3.5,-8) U9(3.5,-8) U10(4.5,-8)
  round 0.35 on Mech8 paste+0 mask+0: A1(-4.5,8) A2(-3.5,8) A9(3.5,8) A10(4.5,8) B1(-4.5,7) B10(4.5,7) D2(-3.5,5) D3(-2.5,5) D4(-1.5,5) D5(-0.5,5) D6(0.5,5) D7(1.5,5) D8(2.5,5) D9(3.5,5) E2(-3.5,4) E3(-2.5,4) E4(-1.5,4) E5(-0.5,4) E6(0.5,4) E7(1.5,4) E8(2.5,4) E9(3.5,4) F2(-3.5,3) F3(-2.5,3) F4(-1.5,3) F5(-0.5,3) F6(0.5,3) F7(1.5,3) F8(2.5,3) F9(3.5,3) G2(-3.5,2) G3(-2.5,2) G4(-1.5,2) G5(-0.5,2) G6(0.5,2) G7(1.5,2) G8(2.5,2) G9(3.5,2) H2(-3.5,1) H3(-2.5,1) H4(-1.5,1) H5(-0.5,1) H6(0.5,1) H7(1.5,1) H8(2.5,1) H9(3.5,1) J2(-3.5,0) J3(-2.5,0) J4(-1.5,0) J5(-0.5,0) J6(0.5,0) J7(1.5,0) J8(2.5,0) J9(3.5,0) K2(-3.5,-1) K3(-2.5,-1) K4(-1.5,-1) K5(-0.5,-1) K6(0.5,-1) K7(1.5,-1) K8(2.5,-1) K9(3.5,-1) L2(-3.5,-2) L3(-2.5,-2) L4(-1.5,-2) L5(-0.5,-2) L6(0.5,-2) L7(1.5,-2) L8(2.5,-2) L9(3.5,-2) M2(-3.5,-3) M3(-2.5,-3) M4(-1.5,-3) M5(-0.5,-3) M6(0.5,-3) M7(1.5,-3) M8(2.5,-3) M9(3.5,-3) N2(-3.5,-4) N3(-2.5,-4) N4(-1.5,-4) N5(-0.5,-4) N6(0.5,-4) N7(1.5,-4) N8(2.5,-4) N9(3.5,-4) P2(-3.5,-5) P3(-2.5,-5) P4(-1.5,-5) P5(-0.5,-5) P6(0.5,-5) P7(1.5,-5) P8(2.5,-5) P9(3.5,-5) T1(-4.5,-7) T10(4.5,-7) U1(-4.5,-8) U2(-3.5,-8) U9(3.5,-8) U10(4.5,-8)
Top Overlay:
  circle w0.25: c-7.65,8.85 r0.125
  region: -6,9 -7,8 -7,9
  lines w0.2: -7,8 -6,9 ; -7,-9 -7,9 7,9 7,-9 -7,-9
  text "10" at 5.2,9.2 h1.27
  text "1" at -3.9,9.4 h1.27
  text "U" at -8,-8.8 h1.27
  text "A" at -8.1,7.5 h1.27
Top Assembly:
  lines w0.025: -7.048,8.555 -6.549,9.055 ; -7.048,-9.055 -7.048,9.055 7.048,9.055 7.048,-9.055 -7.048,-9.055
  lines w0.1: -7,-9 -7,9 7,9 7,-9 -7,-9
  text "'.Designator'" at -3.952,-0.622 h1.5
  text "10" at 5.135,9.69 h1.27
  text "1" at -3.865,9.69 h1.27
  text "U" at -8.319,-8.635 h1.27
  text "A" at -8.319,7.365 h1.27
Top Courtyard:
  lines w0.05: -8.1,-10.1 -8.1,10.1 8.1,10.1 8.1,-10.1 -8.1,-10.1
  lines w0.1: -0.5,0 0.5,0 ; 0,-0.5 0,0.5
Top Component Outline:
  lines w0.05: -7.1,-9.1 -7.1,9.1 7.1,9.1 7.1,-9.1 -7.1,-9.1
Top Component Center:
  circle w0.05: c0,0 r0.3
  lines w0.05: -0.5,0 0.5,0 ; 0,-0.5 0,0.5
3D body "BGA100C100P10X17_1400X1800X150.step": height 1.5, standoff 0, extent -7,-9 7,9

## BNO086 [mm]
pads (28):
  rect 0.675x0.25 smd mask+0.06: 1(1.562,2.25) 6(-1.562,2.25) 7(-1.562,1.75) 8(-1.562,1.25) 9(-1.562,0.75) 10(-1.562,0.25) 11(-1.562,-0.25) 12(-1.562,-0.75) 13(-1.562,-1.25) 14(-1.562,-1.75) 15(-1.562,-2.25) 20(1.562,-2.25) 21(1.562,-1.75) 22(1.562,-1.25) 23(1.562,-0.75) 24(1.563,-0.25) 25(1.563,0.25) 26(1.562,0.75) 27(1.562,1.25) 28(1.562,1.75)
  rect 0.25x0.575 smd mask+0.06: 2(0.75,2.312) 3(0.25,2.312) 4(-0.25,2.312) 5(-0.75,2.312) 16(-0.75,-2.313) 17(-0.25,-2.313) 18(0.25,-2.313) 19(0.75,-2.313)
Top Overlay:
  lines w0.1: 2.4,2.25 cw(c2.45,2.25) 2.5,2.25 cw(c2.45,2.25) 2.4,2.25
Mechanical 15:
  lines w0.1: -1.9,-2.6 1.9,-2.6 1.9,2.6 -1.9,2.6 -1.9,-2.6
Mechanical 20:
  lines w0.1: -2.9,-3.6 2.9,-3.6 2.9,3.6 -2.9,3.6 -2.9,-3.6
3D body "BNO086.stp": height 1.13, standoff 0, extent -1.9,-2.6 1.9,2.6

## BQB0016A-MFG [mm]
pads (19):
  rect 0.24x0.6 smd paste+0 mask+0: 1(-0.25,1.65) 8(-0.25,-1.65) 9(0.25,-1.65) 16(0.25,1.65)
  rect 0.6x0.24 smd paste+0 mask+0: 2(-1.15,1.25) 3(-1.15,0.75) 4(-1.15,0.25) 5(-1.15,-0.25) 6(-1.15,-0.75) 7(-1.15,-1.25) 10(1.15,-1.25) 11(1.15,-0.75) 12(1.15,-0.25) 13(1.15,0.25) 14(1.15,0.75) 15(1.15,1.25)
  round 0.5 / inner round 1.524 / far side round 0.5 hole 0.203 paste-2539.97 mask-0.241: 17(0,-0.75) 17(0,0.75)
  rect 1x2 smd paste-0.987 mask+0: 17(0,0)
Top Overlay:
  circle w0.25: c-0.25,2.5 r0.125
  lines w0.15: -1.3,-1.745 -1.3,-1.8 -0.745,-1.8 ; -1.3,1.745 -1.3,1.8 -0.745,1.8 ; 0.745,-1.8 1.3,-1.8 1.3,-1.745 ; 0.745,1.8 1.3,1.8 1.3,1.745
Top Paste:
  region: -0.475,-0.845 -0.475,0.845 -0.425,0.895 0.425,0.895 0.475,0.845 0.475,-0.845 0.425,-0.895 -0.425,-0.895
Mechanical 13:
  lines w0.15: -1.3,-1.8 1.3,-1.8 1.3,1.8 -1.3,1.8 -1.3,-1.8
3D body "BQB0016A.stp": height 0.8, standoff 0, extent -1.25,-1.75 1.25,1.75

## BSSOP_65P_750W_28 [mm]
pads (28):
  rrect50% 2.303x0.443 smd mask+0.11: 1(-4.515,4.225) 2(-4.515,3.575) 3(-4.515,2.925) 4(-4.515,2.275) 5(-4.515,1.625) 6(-4.515,0.975) 7(-4.515,0.325) 8(-4.515,-0.325) 9(-4.515,-0.975) 10(-4.515,-1.625) 11(-4.515,-2.275) 12(-4.515,-2.925) 13(-4.515,-3.575) 14(-4.515,-4.225) 15(4.515,-4.225) 16(4.515,-3.575) 17(4.515,-2.925) 18(4.515,-2.275) 19(4.515,-1.625) 20(4.515,-0.975) 21(4.515,-0.325) 22(4.515,0.325) 23(4.515,0.975) 24(4.515,1.625) 25(4.515,2.275) 26(4.515,2.925) 27(4.515,3.575) 28(4.515,4.225)
Top Overlay:
  lines w0.125: -5.6,4.7 -3.8,4.7 -3.8,5.2 3.8,5.2 3.8,4.7 ; -3.8,-4.7 -3.8,-5.2 3.8,-5.2 3.8,-4.8 3.8,-4.7
Top Assembly:
  lines w0.1: -3.8,-5.2 -3.8,4.1 -2.7,5.2 3.8,5.2 3.8,-5.2 -3.8,-5.2
  text "'.Designator'" at -3.952,-0.622 h1.5
Top Courtyard:
  lines w0.05: -5.9,-4.7 -4,-4.7 -4,-5.4 4,-5.4 4,-4.7 5.9,-4.7 5.9,4.7 4,4.7 4,5.4 3.8,5.4 -4,5.4 -4,4.7 -5.9,4.7 -5.9,-4.6 -5.9,-4.7
Top Component Outline:
  rectangle: -5.31,4.05 -4.04,4.4
  rectangle: 4.04,-4.4 5.31,-4.05
  rectangle: 4.04,-3.75 5.31,-3.4
  rectangle: 4.04,-3.1 5.31,-2.75
  rectangle: 4.04,-2.45 5.31,-2.1
  rectangle: 4.04,-1.8 5.31,-1.45
  rectangle: 4.04,-1.15 5.31,-0.8
  rectangle: 4.04,-0.5 5.31,-0.15
  rectangle: 4.04,0.15 5.31,0.5
  rectangle: 4.04,0.8 5.31,1.15
  rectangle: 4.04,1.45 5.31,1.8
  rectangle: 4.04,2.1 5.31,2.45
  rectangle: 4.04,2.75 5.31,3.1
  rectangle: 4.04,4.05 5.31,4.4
  rectangle: 4.04,3.4 5.31,3.75
  rectangle: -5.31,-1.8 -4.04,-1.45
  rectangle: -5.31,-1.15 -4.04,-0.8
  rectangle: -5.31,-0.5 -4.04,-0.15
  rectangle: -5.31,-2.45 -4.04,-2.1
  rectangle: -5.31,-4.4 -4.04,-4.05
  rectangle: -5.31,-3.75 -4.04,-3.4
  rectangle: -5.31,-3.1 -4.04,-2.75
  rectangle: -5.31,2.1 -4.04,2.45
  rectangle: -5.31,2.75 -4.04,3.1
  rectangle: -5.31,3.4 -4.04,3.75
  rectangle: -5.31,0.15 -4.04,0.5
  rectangle: -5.31,0.8 -4.04,1.15
  rectangle: -5.31,1.45 -4.04,1.8
  lines w0.05: -3.8,-5.2 3.8,-5.2 3.8,5.2 -3.8,5.2 -3.8,-5.2
Top Component Center:
  circle w0.05: c0,0 r0.3
  lines w0.05: -0.5,0 0.5,0 ; 0,-0.5 0,0.5
Mechanical 13:
  lines w0.15: -3.75,-5.15 -3.75,5.15 3.75,5.15 3.75,-5.15 -3.75,-5.15
3D body "DP0028A.stp": height 2.59, standoff 0, extent -5.167,-5.15 5.167,5.15

## BSSOP_65P_750W_28_L [mm]
pads (28):
  rrect50% 2.003x0.403 smd: 1(-4.465,4.225) 2(-4.465,3.575) 3(-4.465,2.925) 4(-4.465,2.275) 5(-4.465,1.625) 6(-4.465,0.975) 7(-4.465,0.325) 8(-4.465,-0.325) 9(-4.465,-0.975) 10(-4.465,-1.625) 11(-4.465,-2.275) 12(-4.465,-2.925) 13(-4.465,-3.575) 14(-4.465,-4.225) 15(4.465,-4.225) 16(4.465,-3.575) 17(4.465,-2.925) 18(4.465,-2.275) 19(4.465,-1.625) 20(4.465,-0.975) 21(4.465,-0.325) 22(4.465,0.325) 23(4.465,0.975) 24(4.465,1.625) 25(4.465,2.275) 26(4.465,2.925) 27(4.465,3.575) 28(4.465,4.225)
Top Overlay:
  lines w0.125: -5.4,4.6 -3.8,4.6 -3.8,4.7 -3.8,5.2 3.8,5.2 3.8,4.7 ; -3.8,-4.7 -3.8,-5.2 3.8,-5.2 3.8,-4.8 3.8,-4.7
Top Assembly:
  lines w0.1: -3.8,-5.2 -3.8,4.1 -2.7,5.2 3.8,5.2 3.8,-5.2 -3.8,-5.2
  text "'.Designator'" at -3.952,-0.622 h1.5
Top Courtyard:
  lines w0.05: -5.6,-4.6 -3.9,-4.6 -3.9,-5.3 3.9,-5.3 3.9,-4.6 5.6,-4.6 5.6,4.6 3.9,4.6 3.9,5.3 3.8,5.3 -3.9,5.3 -3.9,4.6 -5.6,4.6 -5.6,-4.5 -5.6,-4.6
Top Component Outline:
  rectangle: -5.31,4.05 -4.04,4.4
  rectangle: 4.04,-4.4 5.31,-4.05
  rectangle: 4.04,-3.75 5.31,-3.4
  rectangle: 4.04,-3.1 5.31,-2.75
  rectangle: 4.04,-2.45 5.31,-2.1
  rectangle: 4.04,-1.8 5.31,-1.45
  rectangle: 4.04,-1.15 5.31,-0.8
  rectangle: 4.04,-0.5 5.31,-0.15
  rectangle: 4.04,0.15 5.31,0.5
  rectangle: 4.04,0.8 5.31,1.15
  rectangle: 4.04,1.45 5.31,1.8
  rectangle: 4.04,2.1 5.31,2.45
  rectangle: 4.04,2.75 5.31,3.1
  rectangle: 4.04,4.05 5.31,4.4
  rectangle: 4.04,3.4 5.31,3.75
  rectangle: -5.31,-1.8 -4.04,-1.45
  rectangle: -5.31,-1.15 -4.04,-0.8
  rectangle: -5.31,-0.5 -4.04,-0.15
  rectangle: -5.31,-2.45 -4.04,-2.1
  rectangle: -5.31,-4.4 -4.04,-4.05
  rectangle: -5.31,-3.75 -4.04,-3.4
  rectangle: -5.31,-3.1 -4.04,-2.75
  rectangle: -5.31,2.1 -4.04,2.45
  rectangle: -5.31,2.75 -4.04,3.1
  rectangle: -5.31,3.4 -4.04,3.75
  rectangle: -5.31,0.15 -4.04,0.5
  rectangle: -5.31,0.8 -4.04,1.15
  rectangle: -5.31,1.45 -4.04,1.8
  lines w0.05: -3.8,-5.2 3.8,-5.2 3.8,5.2 -3.8,5.2 -3.8,-5.2
Top Component Center:
  circle w0.05: c0,0 r0.3
  lines w0.05: -0.5,0 0.5,0 ; 0,-0.5 0,0.5
Mechanical 13:
  lines w0.15: -3.75,-5.15 -3.75,5.15 3.75,5.15 3.75,-5.15 -3.75,-5.15
3D body "DP0028A.stp": height 2.59, standoff 0, extent -5.167,-5.15 5.167,5.15